# EAGLE library part NE555 (library bytewerk-analog)
555 timer
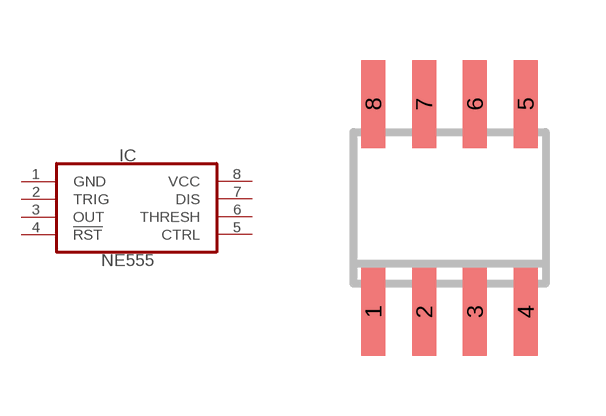
[diagram p1: symbol with the pads of SO-8; footprint SO-8]

Designator prefix IC

## NE555 (MF: TI; MPN: NE555D; OC_FARNELL: 9589880)  [SO-8]
1  GND  pwr
2  TRIG  in
3  OUT  out
4  !RST!  in
5  CTRL
6  THRESH  in
7  DIS  pas
8  VCC  pwr

## Footprint SO-8 (pad centres in mm)
smd 0.6 x 2.2: 1 -1.905,-2.6; 2 -0.635,-2.6; 3 0.635,-2.6; 4 1.905,-2.6; 5 1.905,2.6; 6 0.635,2.6; 7 -0.635,2.6; 8 -1.905,2.6